# Altium footprint library Connectors.PcbLib: 56 footprints (part 3 of 4)
Each footprint in its own frame and in the unit in brackets; x right, y up, seen from the top. Pads: shape width x height; smd on the part's side, far side on the other; paste and mask are expansions set on the pad; w line width, h text height; cw(c..) or ccw(c..) is an arc to the next point about the centre after c.
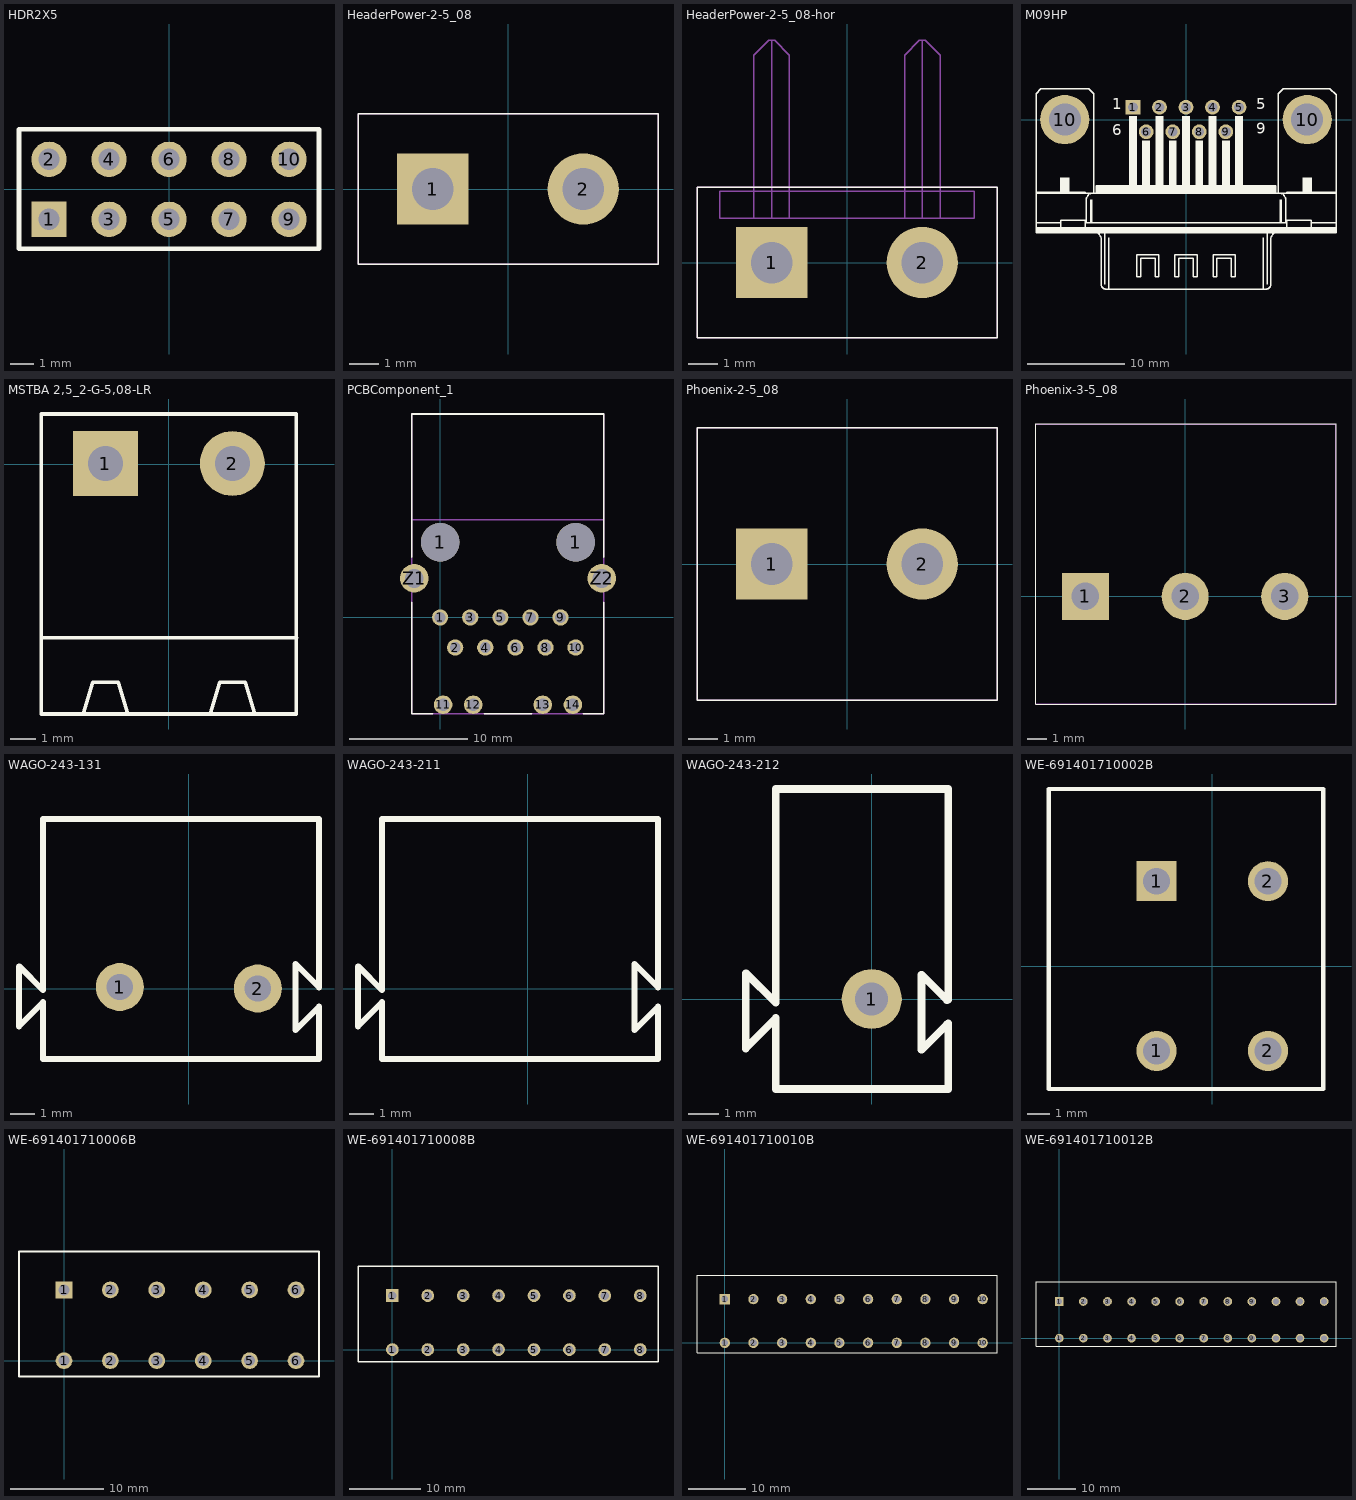
[diagram p2: the footprints below, top view; thin cyan lines are the x and y axes]

## HDR2X5 [mm] "Connector; Header; 10 Position"
pads (10):
  rect 1.5x1.5 hole 0.9: 1(-5.08,-1.27)
  round 1.5 hole 0.9: 2(-5.08,1.27) 3(-2.54,-1.27) 4(-2.54,1.27) 5(0,-1.27) 6(0,1.27) 7(2.54,-1.27) 8(2.54,1.27) 9(5.08,-1.27) 10(5.08,1.27)
Top Overlay:
  lines w0.2: -6.35,-2.51 6.35,-2.51 6.35,2.54 -6.35,2.54 -6.35,-2.51
3D body "61301021121.stp": height 8.57, standoff -2.97, extent -6.35,-2.54 6.35,2.54

## HeaderPower-2-5_08 [mm] "Samtec, FWS-02-02-T-S-RA"
height 13.8
pads (2):
  rect 2.4x2.4 hole 1.4: 1(-2.54,0)
  round 2.4 hole 1.4: 2(2.54,0)
Top Overlay:
  lines w0.05: -5.06,-2.54 -5.06,2.54 5.06,2.54 5.06,-2.54 -5.06,-2.54
Mechanical 1:
  lines w0.05: -5.06,-2.54 -5.06,2.54 5.06,2.54 5.06,-2.54 -5.06,-2.54
3D body "2-Pin-5_08mmVert.STEP": height 8.62, standoff -2.92, extent -3.81,-1.27 3.81,1.27

## HeaderPower-2-5_08-hor [mm] "Samtec, FWS-02-02-T-S-RA"
height 13.8
pads (2):
  rect 2.4x2.4 hole 1.4: 1(-2.54,0)
  round 2.4 hole 1.4: 2(2.54,0)
Top Overlay:
  lines w0.05: -5.06,-2.54 5.06,-2.54 5.06,2.54 -5.06,2.54 -5.06,-2.54
Mechanical 1:
  lines w0.05: -3.14,1.5 -3.14,7 -2.64,7.5 -2.54,7.5 ; -2.54,1.5 -2.54,7.5 ; -1.94,1.5 -1.94,7 -2.44,7.5 -2.54,7.5 ; 1.94,1.5 1.94,7 2.44,7.5 2.64,7.5 3.14,7 3.14,1.5 ; 2.54,1.5 2.54,7.5 ; -5.06,-2.54 5.06,-2.54 5.06,2.54 -5.06,2.54 -5.06,-2.54 ; -4.3,1.5 -4.3,2.41 4.3,2.41 4.3,1.5 -4.3,1.5
3D body "2-Pin-5_08mm.STEP": height 2.57, standoff -2.97, extent -3.83,-0.18 3.79,10.18

## M09HP [mil]
pads (11):
  rect 60x60 hole 40: 1(-216,50)
  round 60 hole 40: 2(-108,50) 3(0,50) 4(108,50) 5(216,50) 6(-162,-50) 7(-54,-50) 8(54,-50) 9(162,-50)
  round 200 hole 130: 10(-493,0) 10(493,0)
Top Overlay:
  circle w6: c-493,0 r65
  circle w6: c493,0 r65
  rectangle: 200,-270 232,15
  rectangle: 146,-270 178,-85
  rectangle: 92,-270 124,15
  rectangle: 38,-270 70,-85
  rectangle: -16,-270 16,15
  rectangle: -70,-270 -38,-85
  rectangle: -124,-270 -92,15
  rectangle: -178,-270 -146,-85
  rectangle: -232,-270 -200,15
  rectangle: -610,-460 610,-440
  rectangle: -365,-300 365,-270
  rectangle: -513,-300 -473,-235
  rectangle: 473,-300 513,-235
  rectangle: -390,-420 -380,-325
  rectangle: 380,-420 390,-325
  lines w6: -380,-300 ccw(c-380,-325) -405,-325 -405,-420 ; -370,-460 cw(c-370,-485) -345,-485 -345,-670 ccw(c-325,-670) -325,-690 -315,-690 ; -330,-670 -330,-460 ; -315,-480 -315,-690 ; 315,-480 315,-690 ; 330,-670 330,-460 ; 370,-460 ccw(c370,-485) 345,-485 345,-670 cw(c325,-670) 325,-690 315,-690 ; 380,-300 cw(c380,-325) 405,-325 405,-420 ; -610,-440 -510,-440 ; -610,-440 -610,-420 ; -610,-440 -610,-460 -330,-460 ; -610,-420 -510,-420 ; -610,-420 -610,-300 ; -610,-300 -410,-300 ; -610,-300 -610,-295 ; -610,-295 -610,105 -590,125 -395,125 -375,105 -375,-300 ; -610,-295 -410,-295 -410,-300 ; -510,-440 -410,-440 ; -510,-440 -510,-420 ; -510,-420 -510,-410 -410,-410 -410,-420 ; -410,-440 -410,-420 ; -410,-440 410,-440 ; -410,-420 -405,-420 ; -410,-300 -375,-300 ; -405,-420 405,-420 ; -375,-300 -365,-300 ; -365,-300 -365,-270 365,-270 365,-300 ; -365,-300 365,-300 ; -330,-460 330,-460 ; -315,-690 315,-690 ; 330,-460 610,-460 610,-440 ; 365,-300 375,-300 ; 375,-300 375,105 395,125 585,125 610,100 610,-295 ; 375,-300 410,-300 ; 405,-420 410,-420 ; 410,-440 410,-420 ; 410,-440 510,-440 ; 410,-420 410,-410 510,-410 510,-420 ; 410,-300 410,-295 610,-295 ; 410,-300 610,-300 ; 510,-440 510,-420 ; 510,-440 610,-440 ; 510,-420 610,-420 ; 610,-440 610,-420 ; 610,-420 610,-300 ; 610,-300 610,-295 ; -200,-640 -200,-550 -110,-550 -110,-640 -125,-640 -125,-565 -185,-565 -185,-640 -200,-640 ; -45,-640 -45,-550 45,-550 45,-640 30,-640 30,-565 -30,-565 -30,-640 -45,-640 ; 110,-640 110,-550 200,-550 200,-640 185,-640 185,-565 125,-565 125,-640 110,-640
  text "6" at -300,-80 h77.5
  text "9" at 285,-75 h77.5
  text "5" at 285,25 h77.5
  text "1" at -300,25 h77.5
3D body "c-1-1634580-2-c-3d.stp": height 542.32, standoff -141.73, extent -606.3,-699.21 606.3,122.83

## MSTBA 2,5_2-G-5,08-LR [mm]
height 11.9
pads (2):
  rect 2.6x2.6 hole 1.4: 1(-2.54,0.02)
  round 2.6 hole 1.4: 2(2.54,0.02)
Top Overlay:
  lines w0.15: -3.422,-9.998 -3.041,-8.728 -2.025,-8.728 -1.644,-9.998 ; 1.658,-9.998 2.039,-8.728 3.055,-8.728 3.436,-9.998 ; -5.1,-10 5.1,-10 5.1,2 -5.1,2 -5.1,-10
  lines w0.152: -5.089,-6.95 5.112,-6.95
3D body: height 8.6, standoff 0, extent -5.09,-10 5.11,1.99

## PCBComponent_1 [mil]
pads (18):
  round 54 hole 36: 1(0,0) 2(50,-100) 3(100,0) 4(150,-100) 5(200,0) 6(250,-100) 7(300,0) 8(350,-100) 9(400,0) 10(450,-100)
  round 128 hole 128: 1(0,250) 1(450,250)
  round 61.5 hole 41: 11(9.84,-290.16) 12(109.84,-290.16) 13(341,-290.16) 14(441,-290.16)
  round 94.5 hole 63: Z1(-86.02,129.92) Z2(537,129.92)
Top Overlay:
  lines w5: -93.9,50 -93.9,-320.87 -25,-320.87 ; -93.9,200 -93.9,676 544,676 544,200 ; 146.26,-320.87 304,-320.87 ; 475,-320.87 544,-320.87 544,50
Mechanical 10:
  lines w5: -93.9,325 544,325 544,676 -93.9,676 -93.9,325
Mechanical 16:
  lines w5: -93.9,-320.87 544,-320.87 544,676 -93.9,676 -93.9,-320.87
  text "2" at 0,-150 h37.2
  text "10" at 475,-150 h37.2
  text "9" at 450,25 h37.2
  text "1" at -50,0 h37.2

## Phoenix-2-5_08 [mm] "Phoenix, 1715721"
height 13.8
pads (2):
  rect 2.4x2.4 hole 1.4: 1(-2.54,0)
  round 2.4 hole 1.4: 2(2.54,0)
Top Overlay:
  lines w0.05: -5.06,-4.6 5.06,-4.6 5.06,4.6 -5.06,4.6 -5.06,-4.6
Mechanical 1:
  lines w0.05: -5.06,-4.6 5.06,-4.6 5.06,4.6 -5.06,4.6 -5.06,-4.6
3D body "1715721.stp": height 14.2, standoff -3.5, extent -5.051,-5.19 5.851,4.61

## Phoenix-3-5_08 [mm] "Phoenix, 1715721"
height 13.8
pads (3):
  rect 2.4x2.4 hole 1.4: 1(-5.08,0)
  round 2.4 hole 1.4: 2(0,0) 3(5.08,0)
Top Overlay:
  lines w0.05: -7.6,-5.49 -7.6,8.8 7.69,8.8 7.69,-5.49 -7.6,-5.49
Mechanical 1:
  lines w0.05: -7.6,-5.48 -7.6,8.79 7.67,8.79 7.67,-5.48 -7.6,-5.48
3D body "1705472.stp": height 19.7, standoff -3.5, extent -7.54,-5.45 7.7,8.8

## WAGO-243-131 [mm]
pads (2):
  round 2 hole 1.1: 1(-2.875,0.064) 2(2.875,0)
Top Overlay:
  lines w0.254: -7.075,-1.586 -7.075,0.914 -7.052,0.914 -6.075,-0.064 -6.075,7.064 5.425,7.064 5.425,0.046 4.445,1.027 4.445,-1.734 5.425,-0.754 5.425,-2.936 -6.075,-2.936 -6.075,-0.572 -7.075,-1.571 -7.075,-1.586
3D body "243-131_2_03.stp": height 9, standoff -4.5, extent 1.88,-1 3.874,0.991
3D body "243-131_2_03.stp": height 9, standoff -4.5, extent -3.874,-0.93 -1.88,1.061

## WAGO-243-211 [mm]
Top Overlay:
  lines w0.254: -7.075,-1.586 -7.075,0.914 -7.052,0.914 -6.075,-0.064 -6.075,7.064 5.425,7.064 5.425,0.046 4.445,1.027 4.445,-1.734 5.425,-0.754 5.425,-2.936 -6.075,-2.936 -6.075,-0.572 -7.075,-1.571 -7.075,-1.586
3D body "243-211_2_03.stp": height 10, standoff 0, extent -7.15,-3 5.45,7

## WAGO-243-212 [mm]
pads (1):
  round 2 hole 1.1: 1(0,0)
Top Overlay:
  lines w0.254: 2.51,-0.847 1.66,-1.697 1.66,0.803 2.51,-0.047 ; 2.55,-0.817 2.55,-3 -3.2,-3 -3.2,-0.635 -4.2,-1.635 -4.2,-1.65 -4.2,0.85 -4.177,0.85 -3.2,-0.127 -3.2,7 2.55,7 2.55,-0.017
3D body: height 9, standoff 0, extent -4.191,-1.651 -3.175,0.889
3D body: height 10, standoff 9, extent -3.19,-3.076 2.54,6.957
3D body: height 9, standoff 0, extent -3.175,-3.076 2.57,6.957

## WE-691401710002B [mm] "WE-691401710002B"
pads (4):
  round 1.8 hole 1.2: 1(-2.5,-3.81) 2(2.5,-3.81) 2(2.5,3.81)
  rect 1.8x1.8 hole 1.2: 1(-2.5,3.81)
Top Overlay:
  lines w0.2: -7.35,-5.52 -7.35,7.95 4.99,7.95 4.99,-5.52 -7.35,-5.52
3D body "691401710002B.stp": height 13.6, standoff -3.2, extent -7.45,-5.64 5.09,8.56

## WE-691401710006B [mm] "WE-691401710006B"
pads (12):
  round 1.8 hole 1.2: 1(0,0) 2(5,0) 2(5,7.62) 3(10,0) 3(10,7.62) 4(15,0) 4(15,7.62) 5(20,0) 5(20,7.62) 6(25,0) 6(25,7.62)
  rect 1.8x1.8 hole 1.2: 1(0,7.62)
Top Overlay:
  lines w0.2: -4.85,-1.71 -4.85,11.76 27.48,11.76 27.48,-1.71 -4.85,-1.71
3D body "691401710006B.stp": height 13.6, standoff -3.2, extent -4.93,-1.78 27.61,12.42

## WE-691401710008B [mm] "WE-691401710008B"
pads (16):
  round 1.8 hole 1.2: 1(0,0) 2(5,0) 2(5,7.62) 3(10,0) 3(10,7.62) 4(15,0) 4(15,7.62) 5(20,0) 5(20,7.62) 6(25,0) 6(25,7.62) 7(30,0) 7(30,7.62) 8(35,0) 8(35,7.62)
  rect 1.8x1.8 hole 1.2: 1(0,7.62)
Top Overlay:
  lines w0.2: -4.85,-1.71 37.51,-1.71 37.51,11.76 -4.85,11.76 -4.85,-1.71
3D body "691401710008B.stp": height 13.6, standoff -3.2, extent -4.98,-1.75 37.56,12.45

## WE-691401710010B [mm] "WE-691401710010B"
pads (20):
  round 1.8 hole 1.2: 1(0,0) 2(5,0) 2(5,7.62) 3(10,0) 3(10,7.62) 4(15,0) 4(15,7.62) 5(20,0) 5(20,7.62) 6(25,0) 6(25,7.62) 7(30,0) 7(30,7.62) 8(35,0) 8(35,7.62) 9(40,0) 9(40,7.62) 10(45,0) 10(45,7.62)
  rect 1.8x1.8 hole 1.2: 1(0,7.62)
Top Overlay:
  lines w0.2: -4.85,-1.71 47.49,-1.71 47.49,11.76 -4.85,11.76 -4.85,-1.71
3D body "691401710010B.stp": height 13.6, standoff -3.2, extent -4.98,-1.75 47.56,12.45

## WE-691401710012B [mm] "WE-691401710012B"
pads (24):
  round 1.8 hole 1.2: 1(0,0) 2(5,0) 2(5,7.62) 3(10,0) 3(10,7.62) 4(15,0) 4(15,7.62) 5(20,0) 5(20,7.62) 6(25,0) 6(25,7.62) 7(30,0) 7(30,7.62) 8(35,0) 8(35,7.62) 9(40,0) 9(40,7.62) 10(45,0) 10(45,7.62) 11(50,0) 11(50,7.62) 12(55,0) 12(55,7.62)
  rect 1.8x1.8 hole 1.2: 1(0,7.62)
Top Overlay:
  lines w0.2: -4.85,-1.71 57.47,-1.71 57.47,11.76 -4.85,11.76 -4.85,-1.71
3D body "691401710012B.stp": height 13.6, standoff -3.2, extent -4.98,-1.75 57.56,12.45